# Altium footprint library Membrane.PcbLib: 1 footprints
Each footprint in its own frame and in the unit in brackets; x right, y up, seen from the top. Pads: shape width x height; smd on the part's side, far side on the other; paste and mask are expansions set on the pad; w line width, h text height; cw(c..) or ccw(c..) is an arc to the next point about the centre after c.
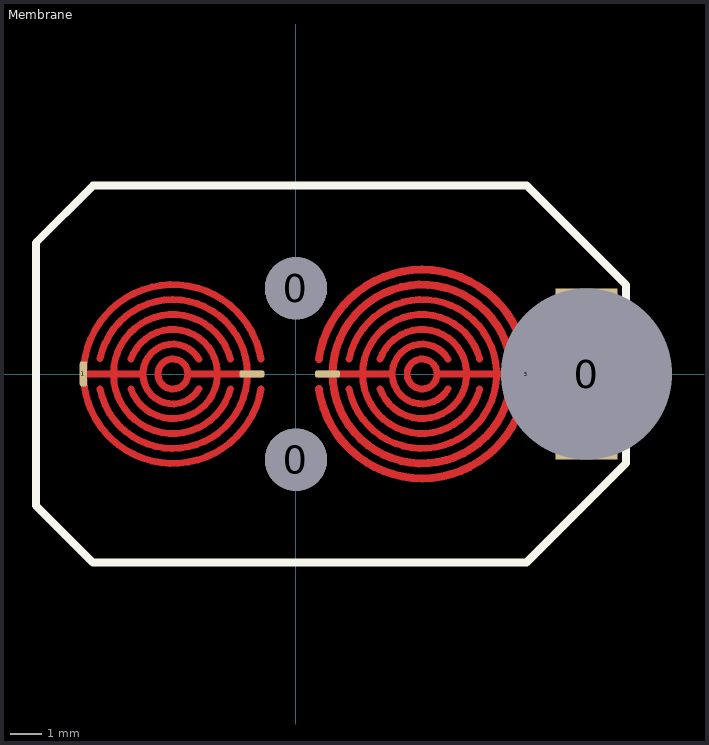
[diagram p0: the footprint, top view; thin cyan lines are the x and y axes]

## Membrane [mm]
pads (7):
  round 2 hole 2: 0(0,-2.75) 0(0,2.75)
  rect 2x5.5 hole 5.5 square: 0(9.328,0)
  rrect50% 0.24x0.8 smd: 1(-6.82,0.001) 3(7.4,-0.005)
  rrect50% 0.8x0.22 smd: 2(-1.41,0) 4(1.015,0)
Top Layer:
  circle w0.22: c4.05,0 r0.48
  circle w0.22: c-3.95,0 r0.48
  lines w0.22: -6.82,0.001 -5.859,0.001 ; -6.291,-0.482 ccw(c-3.95,0) -6.288,0.496 ; -5.86,0 -4.915,0 ; -5.297,-0.48 ccw(c-3.95,0) -5.298,0.478 ; -3.47,0 -1.121,0 ; -3.114,-0.472 cw(c-3.95,0) -3.114,0.472 ; -2.102,-0.482 cw(c-3.95,0) -2.102,0.482 ; -1.121,0.483 ccw(c-3.95,0) -1.121,-0.482 ; 0.735,0 3.085,0 ; 1.709,-0.482 ccw(c4.05,0) 1.709,0.482 ; 2.703,-0.48 ccw(c4.05,0) 2.702,0.478 ; 4.53,0 6.44,0 7.4,0 ; 4.886,-0.472 cw(c4.05,0) 4.886,0.472 ; 5.898,-0.482 cw(c4.05,0) 5.898,0.482 ; 7.4,-0.005 7.4,-0.005
  lines w0.254: 0.735,-0.486 ccw(c4.05,0) 0.735,0.483 ; 6.878,0.487 ccw(c4.05,0) 6.879,-0.481
Top Overlay:
  lines w0.254: -8.35,-4.22 -6.52,-6.05 7.405,-6.05 10.6,-2.855 10.6,2.86 7.41,6.05 -6.51,6.05 -8.35,4.21 -8.35,-0.002 -8.35,-4.22
Top Paste:
  lines w0.22: -1.121,0.483 ccw(c-3.95,0) -1.121,-0.482
  lines w0.254: 0.735,-0.486 ccw(c4.05,0) 0.735,0.483
Top Solder:
  circle w0.4: c-3.95,0 r0.48
  circle w0.4: c4.05,0 r0.48
  lines w0.4: -6.82,0.001 -5.86,0.001 ; -6.291,-0.482 ccw(c-3.95,0) -6.288,0.496 ; -5.86,0.002 -5.858,0 -4.915,0 ; -5.297,-0.48 ccw(c-3.95,0) -5.298,0.478 ; -3.47,0 -1.121,0 ; -3.114,-0.472 cw(c-3.95,0) -3.114,0.472 ; -2.102,-0.482 cw(c-3.95,0) -2.102,0.482 ; -1.121,0.483 ccw(c-3.95,0) -1.121,-0.482 ; 0.735,-0.486 ccw(c4.05,0) 0.735,0.483 ; 0.735,0 2.14,0 ; 1.709,-0.482 ccw(c4.05,0) 1.709,0.482 ; 2.14,0.002 2.14,0 ; 2.703,-0.48 ccw(c4.05,0) 2.702,0.478 ; 4.53,0 6.44,0 ; 4.886,-0.472 cw(c4.05,0) 4.886,0.472 ; 5.898,-0.482 cw(c4.05,0) 5.898,0.482 ; 6.44,-0.005 7.4,-0.005 ; 6.878,0.487 ccw(c4.05,0) 6.879,-0.481 ; -4.915,0 -4.915,0 ; 2.14,0 3.085,0 ; 3.085,0 3.085,0
Multi-Layer:
  pour cut-out: 8.375,2.675 10.275,2.675 10.275,-2.7 8.375,-2.7
  pour cut-out: 1,2.749 1,2.848 0.962,3.041 0.886,3.223 0.777,3.387 0.638,3.526 0.474,3.636 0.292,3.711 0.099,3.75 0.001,3.75 -0.098,3.75 -0.291,3.711 -0.473,3.636 -0.637,3.527 -0.777,3.387 -0.886,3.223 -0.962,3.041 -1,2.848 -1,2.749 -1,2.651 -0.962,2.458 -0.886,2.276 -0.777,2.112 -0.638,1.973 -0.474,1.864 -0.292,1.788 -0.099,1.75 -0.001,1.75 0.098,1.75 0.291,1.788 0.473,1.864 0.637,1.973 0.776,2.112 0.886,2.276 0.961,2.458 1,2.651
  pour cut-out: 1,-2.751 1,-2.652 0.962,-2.459 0.886,-2.277 0.777,-2.113 0.638,-1.974 0.474,-1.864 0.292,-1.789 0.099,-1.75 0.001,-1.75 -0.098,-1.75 -0.291,-1.789 -0.473,-1.864 -0.637,-1.973 -0.777,-2.113 -0.886,-2.277 -0.962,-2.459 -1,-2.652 -1,-2.751 -1,-2.849 -0.962,-3.042 -0.886,-3.224 -0.777,-3.388 -0.638,-3.527 -0.474,-3.636 -0.292,-3.712 -0.099,-3.75 -0.001,-3.75 0.098,-3.75 0.291,-3.712 0.473,-3.636 0.637,-3.527 0.776,-3.388 0.886,-3.224 0.961,-3.042 1,-2.849
3D body "MEMbrane.STEP": height 4.2, standoff -2.4, extent -8.35,-6.052 10.05,6.048